# Altium schematic symbol library Discrete_Connector.SchLib: 62 symbols
Pins are listed as number, name and electrical type; pins without a type are passive.

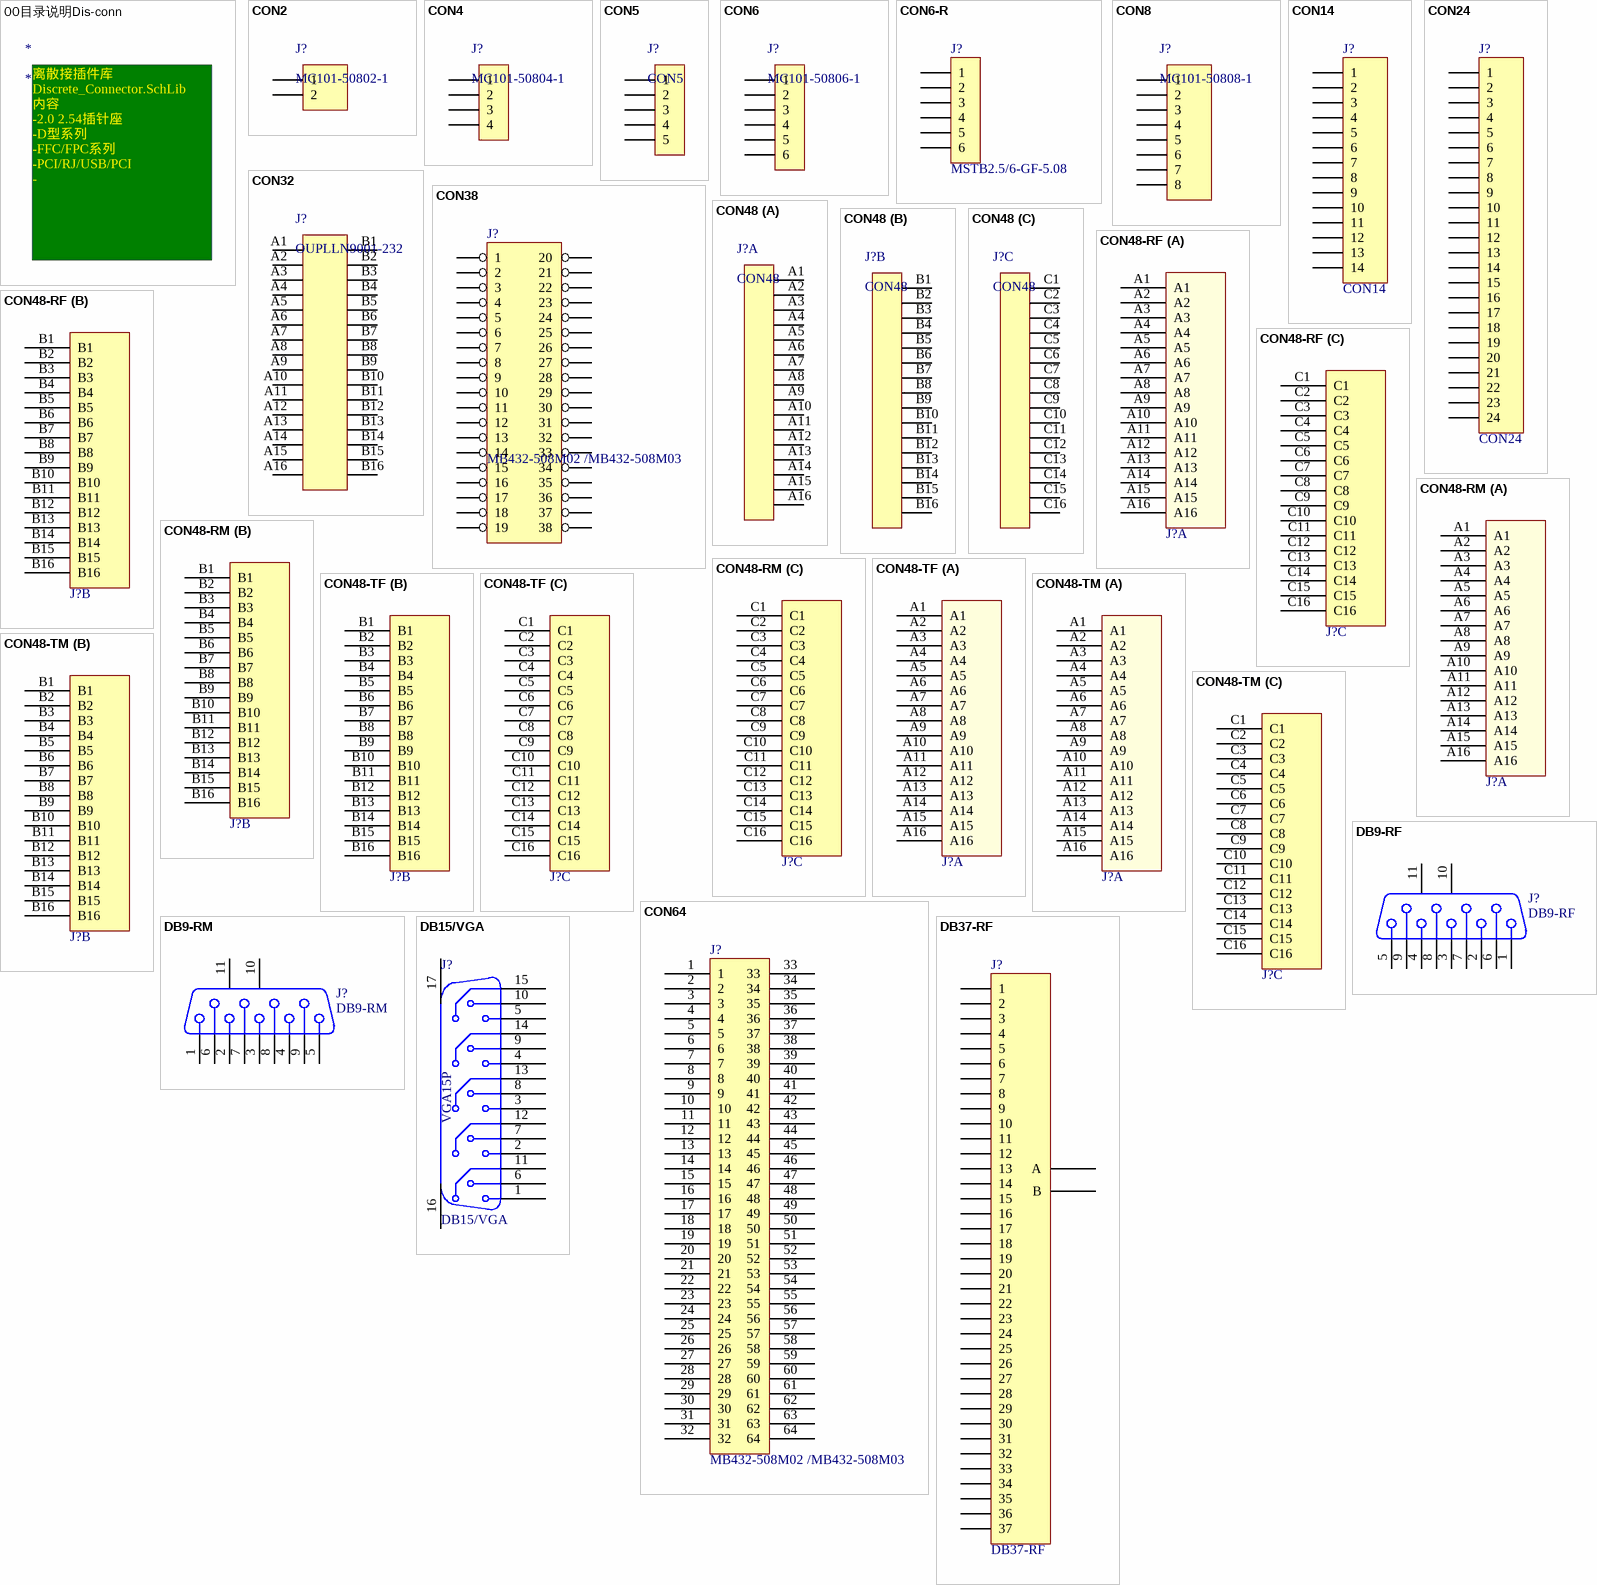
[diagram p0: symbols 00目录说明Dis-conn to DB37-RF]

## 00目录说明Dis-conn
designator *
text: 离散接插件库Discrete_Connector.SchLib / 内容 / -2.0 2.54插针座 / -D型系列 / -FFC/FPC系列 / -PCI/RJ/USB/PCI / - /

## CON2
designator J?, comment MC101-50802-1
5.08mmPHEONIX座; Manufacturer: DECA; Tips: 5.08mm2脚接线端子; 物料替代型号: 国产; Name: 5.08通用接线端子2pin; Ordering NO.: MC101-50802-1; Price: 0.31
footprint TB2/5.08 (菲尼克斯2pin座patch=5.08mm/200mil)
pins: 1, 2

## CON4
designator J?, comment MC101-50804-1
5.08mmPHEONIX座; Manufacturer: DECA; Tips: 5.08mm4脚接线端子; 物料替代型号: 国产; Name: 5.08通用接线端子4pin; Ordering NO.: MC101-50804-1; Price: 0.51
footprint TB4/5.08 (菲尼克斯4pin座patch=5.08mm/200mil)
pins: 1, 2, 3, 4

## CON5
designator J?
5.08mmPHEONIX座; Manufacturer: Phoenix; Tips: TUV认证; Name: Phoenix 5Pin接线端子; Ordering NO.: 座：MSTB2.5/5-GF-5.08（焊接在PCB上）
footprint TB5/5.08 (菲尼克斯5pin座patch=5.08mm/200mil)
pins: 1, 2, 3, 4, 5

## CON6
designator J?, comment MC101-50806-1
5.08mmPHEONIX座; Manufacturer: DECA; Tips: 5.08mm6脚接线端子; 物料替代型号: 国产; Name: 5.08通用接线端子6pin; Ordering NO.: MC101-50806-1; Price: 0.71
footprint TB6/5.08 (菲尼克斯6pin座patch=5.08mm/200mil)
pins: 1, 2, 3, 4, 5, 6

## CON6-R
designator J?, comment MSTB2.5/6-GF-5.08
6pin,单排,5.08间距,90度插针座; Name: 6pin,单排,5.08间距,90度插针座; Ordering NO.: MSTB2.5/6-GF-5.08
footprint PMR6/5.08-R
pins: 1, 2, 3, 4, 5, 6

## CON8
designator J?, comment MC101-50808-1
5.08mmPHEONIX座; Manufacturer: DECA; Tips: 5.08mm8脚接线端子; 物料替代型号: 国产; Name: 5.08通用接线端子8pin; Ordering NO.: MC101-50808-1; Price: 0.9`
footprint TB8/5.08 (菲尼克斯8pin座patch=5.08mm/200mil)
pins: 1, 2, 3, 4, 5, 6, 7, 8

## CON14
designator J?
14pin,单排,2.54mm间距; Manufacturer: 南士; Name: 14pin,单排,2.54mm间距连接器; Ordering NO.: 14pin,单排,2.54mm间距
footprint SIP14/2.54 (14 Leads,Pitch=2.54mm,焊盘: 外径1.6mm,孔径1mm)
pins: 1, 2, 3, 4, 5, 6, 7, 8, 9, 10, 11, 12, 13, 14

## CON24
designator J?
24pin,三排,2.54mm间距; Manufacturer: 南士; Name: 24pin,三排,2.54mm间距连接器; Ordering NO.: 24pin,三排,2.54mm间距
footprint HD3*8/2.54-T
pins: 1, 2, 3, 4, 5, 6, 7, 8, 9, 10, 11, 12, 13, 14, 15, 16, 17, 18, 19, 20, 21, 22, 23, 24

## CON32
designator J?, comment OUPLLN9001-232
欧式DIN32双排16x2; Name: 欧式连接器; Price: 2.01; Ordering NO.: OUPLLN9001-232
footprint PMR2*16/2.54-RF (欧式9001-232双排16x2弯孔)
footprint PMR2*16/2.54-RM (欧式9001-232双排16x2弯针)
pins: A1, A2, A3, A4, A5, A6, A7, A8, A9, A10, A11, A12, A13, A14, A15, A16, B1, B2, B3, B4, B5, B6, B7, B8, B9, B10, B11, B12, B13, B14, B15, B16

## CON38
designator J?, comment MB432-508M02 /MB432-508M03
双排38pin,需要MB432-508M02和MB432-508M03各2个、5个组合使用; Manufacturer: 进联; Name: 双层2连固定式连接器(38Pin); Price: 0.8; Ordering NO.: MB432-508M02 /MB432-508M03
footprint DIP38/5.08
pins: 1, 2, 3, 4, 5, 6, 7, 8, 9, 10, 11, 12, 13, 14, 15, 16, 17, 18, 19, 20, 21, 22, 23, 24, 25, 26, 27, 28, 29, 30, 31, 32, 33, 34, 35, 36, 37, 38

## CON48
designator J?
欧式DIN48三排16x3; Ordering NO.: OUPLLN9001-348; Name: 欧式连接器; Price: 2.11
footprint PMR3*16/2.54-RM
footprint PMR3*16/2.54-RF
footprint PMR3*16/2.54-RF-Mirror (Footprint not found)
part A pins: A1, A2, A3, A4, A5, A6, A7, A8, A9, A10, A11, A12, A13, A14, A15, A16
part B pins: B1, B2, B3, B4, B5, B6, B7, B8, B9, B10, B11, B12, B13, B14, B15, B16
part C pins: C1, C2, C3, C4, C5, C6, C7, C8, C9, C10, C11, C12, C13, C14, C15, C16

## CON48-RF
designator J?, comment HARTING 0928-248-6801  (value not drawn)
90度HARTING连接器2.54mm, 3x16Pin, 母头; Name: HARTING连接器; Manufacturer: HARTING; Ordering NO.: 0928-248-6801
footprint PMR3*16/2.54-RF
part A pins: A1, A2, A3, A4, A5, A6, A7, A8, A9, A10, A11, A12, A13, A14, A15, A16
part B pins: B1, B2, B3, B4, B5, B6, B7, B8, B9, B10, B11, B12, B13, B14, B15, B16
part C pins: C1, C2, C3, C4, C5, C6, C7, C8, C9, C10, C11, C12, C13, C14, C15, C16

## CON48-RM
designator J?, comment HARTING 0923-148-6921  (value not drawn)
90度HARTING连接器2.54mm, 3x16Pin, 公头; Name: HARTING连接器; Manufacturer: HARTING; Ordering NO.: 0923-148-6921
footprint PMR3*16/2.54-RM
part A pins: A1, A2, A3, A4, A5, A6, A7, A8, A9, A10, A11, A12, A13, A14, A15, A16
part B pins: B1, B2, B3, B4, B5, B6, B7, B8, B9, B10, B11, B12, B13, B14, B15, B16
part C pins: C1, C2, C3, C4, C5, C6, C7, C8, C9, C10, C11, C12, C13, C14, C15, C16

## CON48-TF
designator J?, comment HARTING 0923-248-6850  (value not drawn)
180度HARTING连接器2.54mm, 3x16Pin, 短针压接,母头(Har-bus 2C female connector Press-in 4.5, 48-pole); Name: HARTING连接器; Manufacturer: HARTING; Ordering NO.: 0923-248-6850
footprint PMR3*16/2.54-T
part A pins: A1, A2, A3, A4, A5, A6, A7, A8, A9, A10, A11, A12, A13, A14, A15, A16
part B pins: B1, B2, B3, B4, B5, B6, B7, B8, B9, B10, B11, B12, B13, B14, B15, B16
part C pins: C1, C2, C3, C4, C5, C6, C7, C8, C9, C10, C11, C12, C13, C14, C15, C16

## CON48-TM
designator J?, comment HARTING 0928-148-6985  (value not drawn)
180度HARTING连接器2.54mm, 3x16Pin, 长针压接,公头(Type 2R male connector press-in 13,0, 48pol.); Name: HARTING连接器; Manufacturer: HARTING; Ordering NO.: 0928-148-6985
footprint PMR3*16/2.54-T
part A pins: A1, A2, A3, A4, A5, A6, A7, A8, A9, A10, A11, A12, A13, A14, A15, A16
part B pins: B1, B2, B3, B4, B5, B6, B7, B8, B9, B10, B11, B12, B13, B14, B15, B16
part C pins: C1, C2, C3, C4, C5, C6, C7, C8, C9, C10, C11, C12, C13, C14, C15, C16

## CON64
designator J?, comment MB432-508M02 /MB432-508M03
双排64pin,需要MB432-508M02和MB432-508M03各2个、10个组合使用; Manufacturer: 进联; Name: 双层2连固定式连接器(64Pin); Ordering NO.: MB432-508M02 /MB432-508M03
footprint DIP64/5.08mm
pins: 1, 2, 3, 4, 5, 6, 7, 8, 9, 10, 11, 12, 13, 14, 15, 16, 17, 18, 19, 20, 21, 22, 23, 24, 25, 26, 27, 28, 29, 30, 31, 32, 33, 34, 35, 36, 37, 38, 39, 40, 41, 42, 43, 44, 45, 46, 47, 48, 49, 50, 51, 52, 53, 54, 55, 56, 57, 58, 59, 60, 61, 62, 63, 64

## DB9-RF
designator J?
D-SUB 9pin,母头,90度; Manufacturer: HARTING; Name: DB-9母头; Ordering NO.: 09661536612; Tips: TUV认证
footprint DB9-RF (DB9 卧式间距1.385 mm,母头)
pins: 1, 2, 3, 4, 5, 6, 7, 8, 9, 10 MH2, 11 MH1

## DB9-RM
designator J?
D-SUB 9pin, 公头,90度; Manufacturer: HARTING; Name: DB-9公头; Ordering NO.: 09651636812; Tips: TUV认证
footprint DB9-RM (DB9 卧式间距1.385 mm,公头)
pins: 1, 2, 3, 4, 5, 6, 7, 8, 9, 10 MH1, 11 MH2

## DB15/VGA
designator J?
D-SUB 15pin,3排,90度,VGA接插件; Manufacturer: 南士; 物料替代型号: 同型; Tips: VGA 15孔卧式座; Name: DB-15,VGA接插件; Ordering NO.: 3排 DB15/VGA座,卧式; Price: 1.5
footprint DB15-R (patch=90mil,100mil,VGA插座)
pins: 1, 2, 3, 4, 5, 6, 7, 8, 9, 10, 11, 12, 13, 14, 15, 16, 17
text: VGA15P

## DB37-RF
designator J?
D-SUB 37pin,母头,90度; Manufacturer: HARTING; Name: DB-37（90度母头）; Ordering NO.: 09654636812; Tips: TUV认证
footprint DB37-RF (37PIN,直插, 弯)
pins: 1, 2, 3, 4, 5, 6, 7, 8, 9, 10, 11, 12, 13, 14, 15, 16, 17, 18, 19, 20, 21, 22, 23, 24, 25, 26, 27, 28, 29, 30, 31, 32, 33, 34, 35, 36, 37, A, B

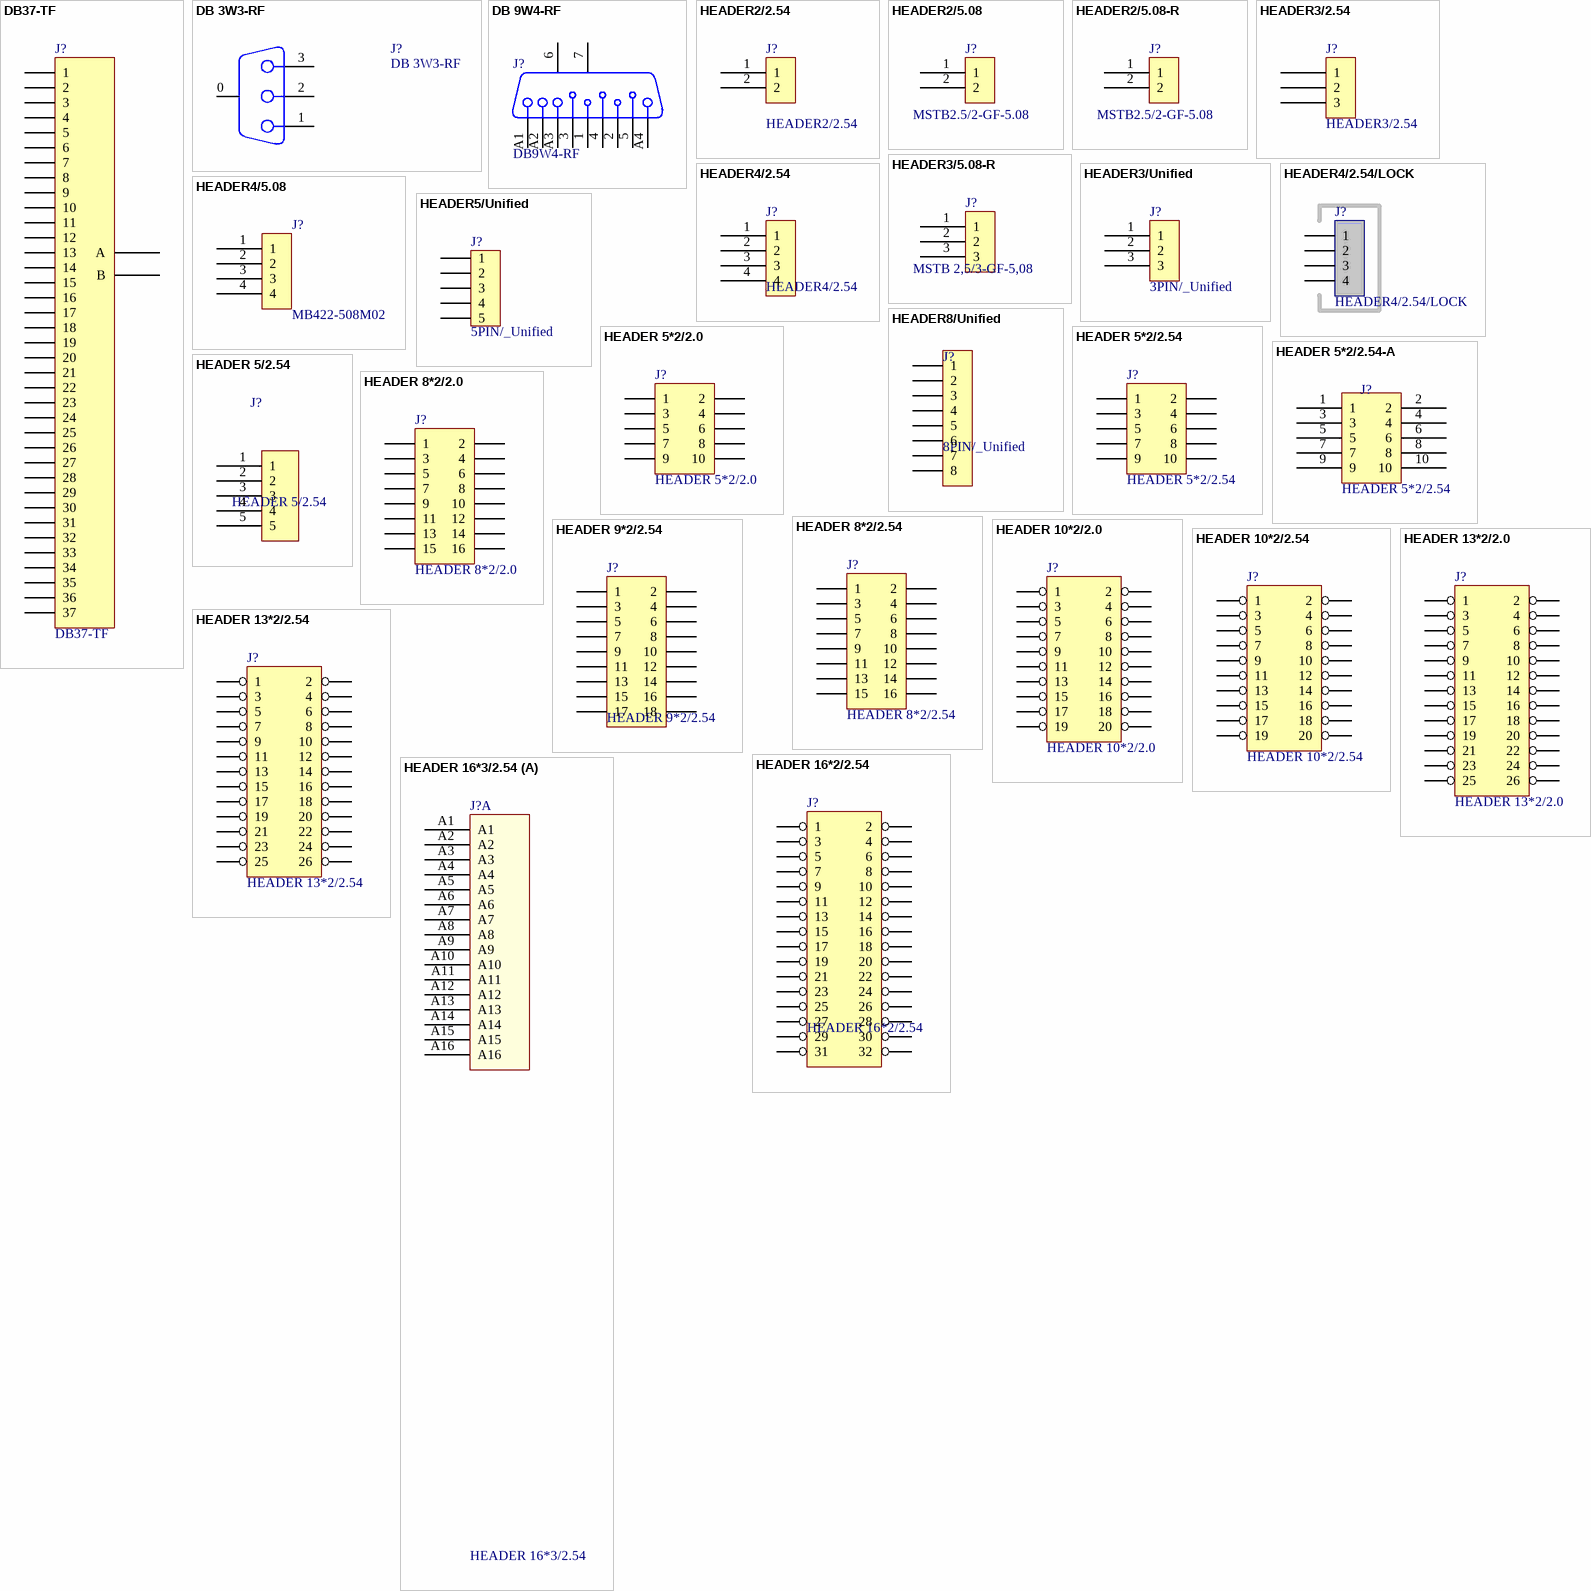
[diagram p1: symbols DB37-TF to HEADER 16*3/2.54]

## DB37-TF
designator J?
D-SUB 37pin,母头,180度; Manufacturer: HARTING; Name: DB-37（180度母头）; Ordering NO.: 09664116503; Tips: TUV认证
footprint DB37-TF (37PIN,直插, 直)
pins: 1, 2, 3, 4, 5, 6, 7, 8, 9, 10, 11, 12, 13, 14, 15, 16, 17, 18, 19, 20, 21, 22, 23, 24, 25, 26, 27, 28, 29, 30, 31, 32, 33, 34, 35, 36, 37, A, B

## DB 3W3-RF
designator J?
D-SUB 3W3,母头,90度; Manufacturer: 优联康; Ordering NO.: UL0.14W8.3W32; Name: DB-3W3
footprint DB3-RF (D-SUB 3W3 弯脚,母座，pitch 6.86mm,)
pins: 0, 1, 2, 3

## DB 9W4-RF
designator J?, comment DB9W4-RF
D-SUB 9W4,母头,90度; Manufacturer: HARTING; Name: DB-9W4; Ordering NO.: TB09693009106
footprint DB9-RF-A (Footprint not found)
pins: 1, 2, 3, 4, 5, 6 MH2, 7 MH1, A1, A2, A3, A4

## HEADER2/2.54
designator J?
2pin,单排,2.54mm间距; Manufacturer: 南士; Name: 2pin,单排,2.54mm间距插针; Price: 0.01; Ordering NO.: 2pin,单排,2.54mm间距
footprint SIP2/2.54 (单排2.54插针, 焊盘: 外径1.5mm,孔径1mm)
pins: 1, 2

## HEADER2/5.08
designator J?, comment MSTB2.5/2-GF-5.08
2pin,单排,5.08mm间距; Manufacturer: Failschild; Name: 端子座; Ordering NO.: MKDS 3/2-5.08
footprint SIP2/5.08
pins: 1, 2

## HEADER2/5.08-R
designator J?, comment MSTB2.5/2-GF-5.08
2pin,单排,5.08mm间距,90度; Manufacturer: 南士; Name: 2pin,单排,5.08mm间距,90度插座; Ordering NO.: MSTB2.5/2-GF-5.08
footprint PMR2/5.08-R
pins: 1, 2

## HEADER3/2.54
designator J?
3pin,单排,2.54mm间距; Manufacturer: 南士; Name: 3pin,单排,2.54mm间距插针; Ordering NO.: 3pin,单排,2.54mm间距
footprint SIP3/2.54 (单排2.54插针, 焊盘: 外径1.5mm,孔径1mm)
footprint 通用3pin,单排,2.54mm间距 (Footprint not found)
pins: 1, 2, 3

## HEADER3/5.08-R
designator J?, comment MSTB 2,5/3-GF-5,08
3pin,单排,5.08mm间距,90度; Manufacturer: Phoenix; Name: 3pin,单排,5.08mm间距,90度插座; Ordering NO.: MSTB 2,5/3-GF-5,08
footprint PMR3/5.08-R
pins: 1, 2, 3

## HEADER3/Unified
designator J?, comment 3PIN/_Unified
3pin,单排,2.54mm间距; Manufacturer: 南士; Ordering NO.: 3pin,单排,2.54mm间距 白座直针; Name: 3pin,单排,2.54mm间距
footprint SIP3/2.0 (单排2.0插针, 焊盘: 外径1.2mm,孔径0.7mm)
footprint SIP3/2.54/LOCK (带锁单排2.54插针, 焊盘: 外径1.5mm,孔径1mm)
pins: 1, 2, 3

## HEADER4/2.54
designator J?
4pin, 单排,2.0mm间距; Manufacturer: 南士; Name: 直插单排插针; Ordering NO.: 单排4pin直针间距2.54mm
footprint SIP4/2.54 (不带锁单排2.54插针, 焊盘: 外径1.5mm,孔径1mm)
pins: 1, 2, 3, 4

## HEADER4/2.54/LOCK
designator J?
4pin,单排,2.54mm间距,白座; Manufacturer: 南士; Name: 4针2.54白座; Ordering NO.: 单排4pin 2.54mm间距 白座直针; Tips: n/a; 物料替代型号: n/a; Price: 0.2
footprint SIP4/2.54/LOCK (带锁单排2.54插针, 焊盘: 外径1.5mm,孔径1mm)
pins: 1, 2, 3, 4

## HEADER4/5.08
designator J?, comment MB422-508M02
4Pin的电源端子,需要2个MB422-508M02组合成1个; Manufacturer: 进联; Name: 端子座; Tips: 给端子板使用; Ordering NO.: MB422-508M02
footprint DIP4/5.08mm (端子板电源端子)
pins: 1, 2, 3, 4

## HEADER5/Unified
designator J?, comment 5PIN/_Unified
5pin,单排,2.54mm间距; Manufacturer: 南士; Name: 5pin,单排,2.54mm间距插针; Ordering NO.: 5pin,单排,2.54mm间距 白座直针
footprint SIP5/2.54/LOCK (带锁单排2.54插针, 焊盘: 外径1.5mm,孔径1mm)
pins: 1, 2, 3, 4, 5

## HEADER8/Unified
designator J?, comment 8PIN/_Unified
8pin,单排,2.54mm间距; Manufacturer: 南士; Name: 8pin,单排,2.54mm间距插针; Ordering NO.: 8pin,单排,2.54mm间距
footprint SIP8/2.54 (Footprint not found)
pins: 1, 2, 3, 4, 5, 6, 7, 8

## HEADER 5*2/2.0
designator J?
10pin, 双排,2.0mm间距; Manufacturer: 南士; Tips: 10直针2.0; Name: 10pin, 双排,2.0mm间距插针; Ordering NO.: 双排10pin直针,间距2.0mm; 物料替代型号: n/a; Price: 0.10
footprint DIP10/2.0 (间距2.0插针,焊盘:外径1.4mm.孔径0.7mm)
pins: 1, 2, 3, 4, 5, 6, 7, 8, 9, 10

## HEADER 5*2/2.54
designator J?
简易牛角座, 10pin,双排, 2.54mm间距; Manufacturer: 南士; Ordering NO.: 302S-10P; Name: 简易牛角座
footprint IDC2*5/2.54 (2.54间距插针, 焊盘:外径1.57mm.孔径0.9mm)
pins: 1, 2, 3, 4, 5, 6, 7, 8, 9, 10

## HEADER 5*2/2.54-A
designator J?, comment HEADER 5*2/2.54
10pin,双排, 2.54mm间距; Manufacturer: 南士; Name: 10pin,双排, 2.54mm间距插针; Ordering NO.: 10pin,双排, 2.54mm间距
footprint DIP10/2.54 (Footprint not found)
pins: 1, 2, 3, 4, 5, 6, 7, 8, 9, 10

## HEADER 5/2.54
designator J?
5pin,单排, 2.54mm间距; Manufacturer: 南士; Name: 5pin,单排, 2.54mm间距插针; Ordering NO.: 5pin,单排, 2.54mm间距
footprint SIP5/2.54 (Footprint not found)
pins: 1, 2, 3, 4, 5

## HEADER 8*2/2.0
designator J?
16pin,双排,2.0mm间距; Manufacturer: 南士; 物料替代型号: 国产通用; Name: 16pin,双排,2.0mm间距 插针; Ordering NO.: 针16pin 2.0间距; Tips: n/a; Price: 0.24
footprint DIP16/2.0 (Footprint not found)
pins: 1, 2, 3, 4, 5, 6, 7, 8, 9, 10, 11, 12, 13, 14, 15, 16

## HEADER 8*2/2.54
designator J?
16pin,双排,2.54mm间距; Manufacturer: 南士; 物料替代型号: 国产通用; Tips: 镀金双排针; Name: 16pin,双排,2.54mm间距插针; Ordering NO.: 镀金双排针16pin 2.54间距; Price: 0.24
footprint DIP16/2.54 (Footprint not found)
pins: 1, 2, 3, 4, 5, 6, 7, 8, 9, 10, 11, 12, 13, 14, 15, 16

## HEADER 9*2/2.54
designator J?
18pin,双排,2.54mm间距; Manufacturer: 南士; 物料替代型号: 国产通用; Tips: 镀金双排针; Name: 18pin,双排,2.54mm间距插针; Ordering NO.: 镀金双排针18pin 2.54间距; Price: 0.24
footprint DIP18/2.54 (Footprint not found)
pins: 1, 2, 3, 4, 5, 6, 7, 8, 9, 10, 11, 12, 13, 14, 15, 16, 17, 18

## HEADER 10*2/2.0
designator J?
20pin, 双排,2.0mm间距; Manufacturer: 南士; Name: 20pin, 双排,2.0mm间距插针; Price: 0.4; Ordering NO.: 20pin, 双排,2.0mm间距
footprint DIP20/2.0 (Footprint not found)
pins: 1, 2, 3, 4, 5, 6, 7, 8, 9, 10, 11, 12, 13, 14, 15, 16, 17, 18, 19, 20

## HEADER 10*2/2.54
designator J?
20pin, 双排,2.54mm间距; Manufacturer: 南士; Name: 20pin, 双排,2.54mm间距插针; Price: 0.4; Ordering NO.: 20pin, 双排,2.54mm间距
footprint DIP20/2.54 (Footprint not found)
pins: 1, 2, 3, 4, 5, 6, 7, 8, 9, 10, 11, 12, 13, 14, 15, 16, 17, 18, 19, 20

## HEADER 13*2/2.0
designator J?
26pin, 双排,2.0mm间距; Manufacturer: 南士; Name: 26pin, 双排,2.0mm间距插针; Ordering NO.: 26pin, 双排,2.0mm间距
footprint DIP26/2.0 (间距2.0插针,焊盘:外径1.4mm.孔径0.7mm)
pins: 1, 2, 3, 4, 5, 6, 7, 8, 9, 10, 11, 12, 13, 14, 15, 16, 17, 18, 19, 20, 21, 22, 23, 24, 25, 26

## HEADER 13*2/2.54
designator J?
26pin, 双排,2.54mm间距; Manufacturer: 南士; Name: 26pin, 双排,2.54mm间距插针; Ordering NO.: 26pin, 双排,2.54mm间距
footprint DIP26/2.54 (2.54间距插针, 焊盘:外径1.57mm.孔径0.9mm)
pins: 1, 2, 3, 4, 5, 6, 7, 8, 9, 10, 11, 12, 13, 14, 15, 16, 17, 18, 19, 20, 21, 22, 23, 24, 25, 26

## HEADER 16*2/2.54
designator J?
32pin, 双排,2.54mm间距; Manufacturer: 南士; Name: 32pin, 双排,2.54mm间距插针; Ordering NO.: 32pin, 双排,2.54mm间距
footprint DIP32/2.54 (Footprint not found)
pins: 1, 2, 3, 4, 5, 6, 7, 8, 9, 10, 11, 12, 13, 14, 15, 16, 17, 18, 19, 20, 21, 22, 23, 24, 25, 26, 27, 28, 29, 30, 31, 32

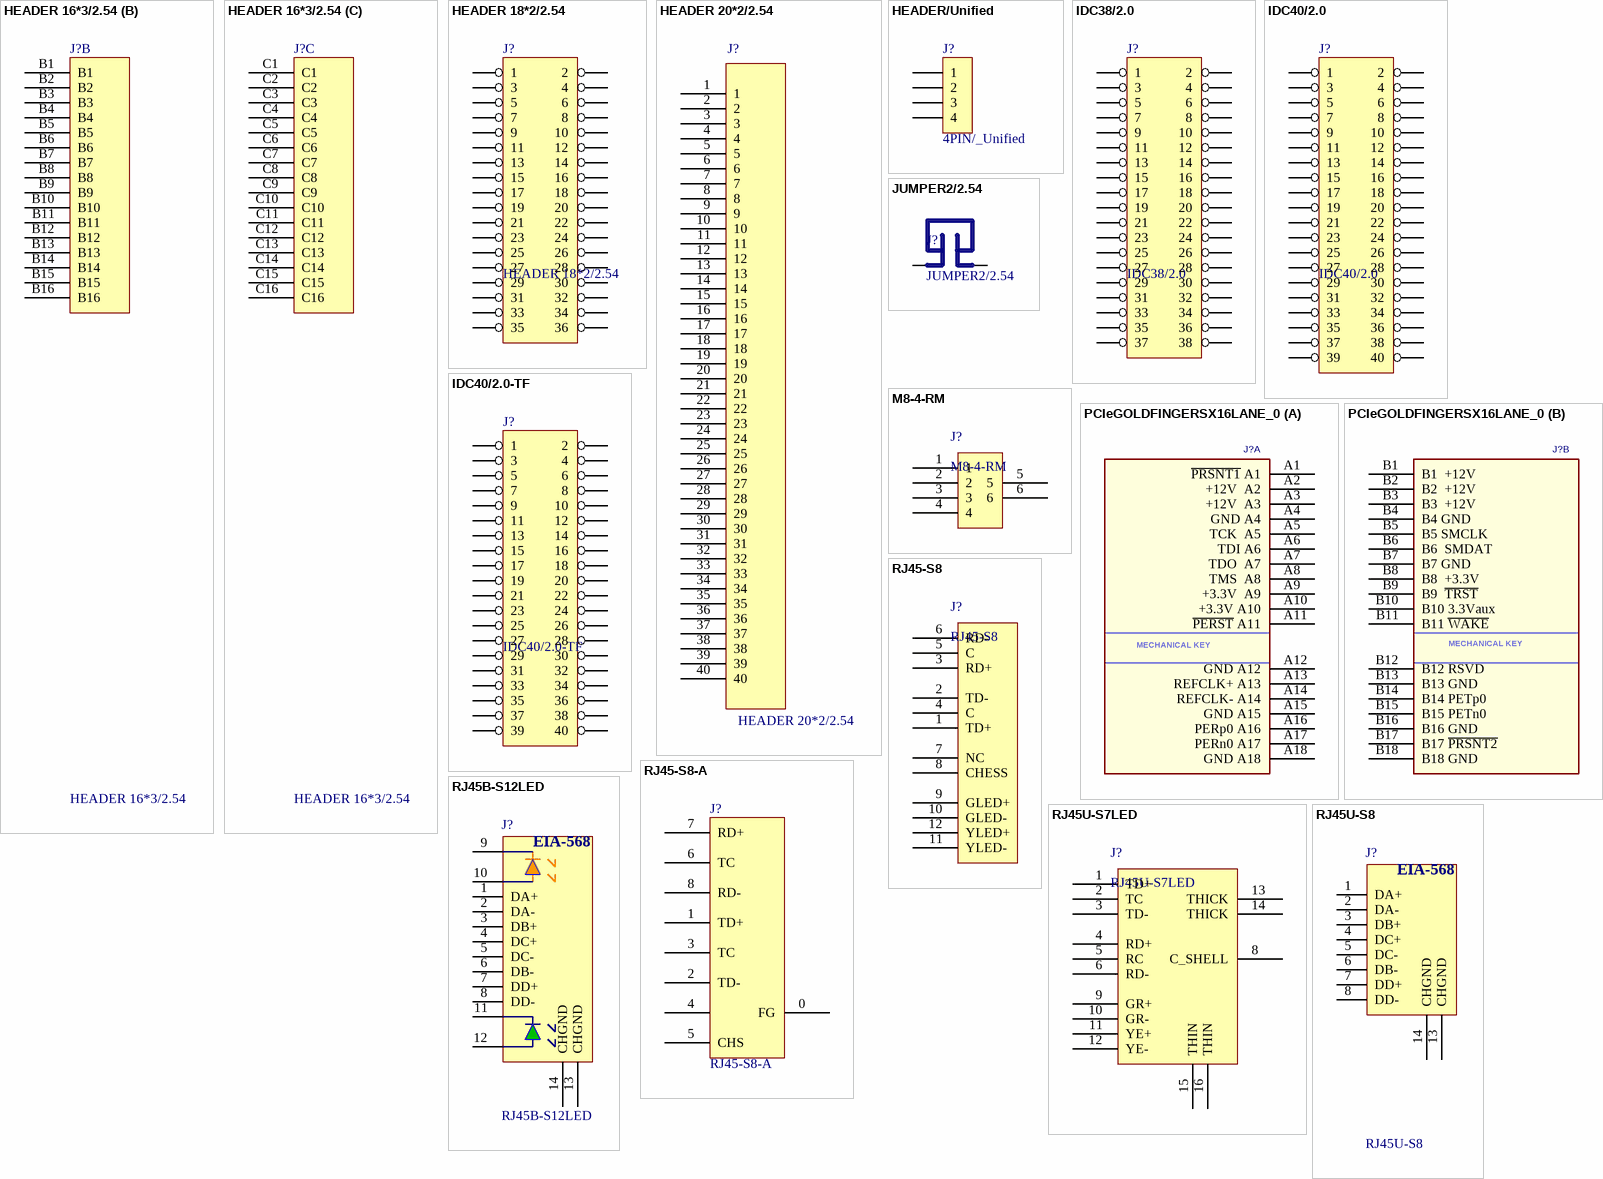
[diagram p2: symbols HEADER 16*3/2.54 to RJ45U-S8]

## HEADER 16*3/2.54
designator J?
48pin,3排,2.54mm间距; Manufacturer: 南士; Name: 48pin,3排,2.54mm间距插针; Ordering NO.: 48pin,3排,2.54mm间距
footprint PMR3*16/2.54-T (Footprint not found)
part A pins: A1, A2, A3, A4, A5, A6, A7, A8, A9, A10, A11, A12, A13, A14, A15, A16
part B pins: B1, B2, B3, B4, B5, B6, B7, B8, B9, B10, B11, B12, B13, B14, B15, B16
part C pins: C1, C2, C3, C4, C5, C6, C7, C8, C9, C10, C11, C12, C13, C14, C15, C16

## HEADER 18*2/2.54
designator J?
36pin, 双排,2.54mm间距; Manufacturer: 南士; Name: 36pin, 双排,2.54mm间距插针; Ordering NO.: 36pin, 双排,2.54mm间距插针
footprint DIP36/2.54 (Footprint not found)
pins: 1, 2, 3, 4, 5, 6, 7, 8, 9, 10, 11, 12, 13, 14, 15, 16, 17, 18, 19, 20, 21, 22, 23, 24, 25, 26, 27, 28, 29, 30, 31, 32, 33, 34, 35, 36

## HEADER 20*2/2.54
designator J?
40pin, 双排,2.54mm间距; Manufacturer: 南士; Name: 40pin, 双排,2.54mm间距插针; Ordering NO.: 40pin, 双排,2.54mm间距
footprint DIP40/2.54
pins: 1, 2, 3, 4, 5, 6, 7, 8, 9, 10, 11, 12, 13, 14, 15, 16, 17, 18, 19, 20, 21, 22, 23, 24, 25, 26, 27, 28, 29, 30, 31, 32, 33, 34, 35, 36, 37, 38, 39, 40

## HEADER/Unified
designator J?, comment 4PIN/_Unified
4pin,单排,2.54mm间距; Manufacturer: 南士; Name: 4pin,单排,2.54mm间距插针; Ordering NO.: 4pin,单排,2.54mm间距
footprint SIP4/2.0 (单排2.0插针, 焊盘: 外径1.2mm,孔径0.7mm)
footprint SIP4/2.54 (不带锁单排2.54插针, 焊盘: 外径1.5mm,孔径1mm)
footprint SIP4/2.54/LOCK (带锁单排2.54插针, 焊盘: 外径1.5mm,孔径1mm)
footprint IDC2*2/2.54 (2.54间距插针, 焊盘:外径1.57mm.孔径0.9mm)
pins: 1, 2, 3, 4

## IDC38/2.0
designator J?
38pin,双排,2.0mm间距; Manufacturer: 南士; Name: IDC连接器; Price: 0.8; Ordering NO.: 38pin,双排,2.0mm间距
footprint IDC38/2.0 (间距2.0插针,焊盘:外径1.4mm.孔径0.7mm)
pins: 1, 2, 3, 4, 5, 6, 7, 8, 9, 10, 11, 12, 13, 14, 15, 16, 17, 18, 19, 20, 21, 22, 23, 24, 25, 26, 27, 28, 29, 30, 31, 32, 33, 34, 35, 36, 37, 38

## IDC40/2.0
designator J?
40pin,双排,2.0mm间距; Manufacturer: 南士; Tips: 2.0间距; Name: IDC连接器; 物料替代型号: n/a; Ordering NO.: 40pin,双排,2.0mm间距; Price: 0.8
footprint DIP40/2.0 (间距2.0插针,焊盘:外径1.4mm.孔径0.7mm)
pins: 1, 2, 3, 4, 5, 6, 7, 8, 9, 10, 11, 12, 13, 14, 15, 16, 17, 18, 19, 20, 21, 22, 23, 24, 25, 26, 27, 28, 29, 30, 31, 32, 33, 34, 35, 36, 37, 38, 39, 40

## IDC40/2.0-TF
designator J?
40pin,双排,2.0mm间距,180度,母头; Manufacturer: 南士; Tips: 2.0间距; Name: IDC连接器; 物料替代型号: n/a; Ordering NO.: 40pin,双排,2.0mm间距,180度,母头; Price: 0.8
footprint DIP40/2.0 (间距2.0插针,焊盘:外径1.4mm.孔径0.7mm)
pins: 1, 2, 3, 4, 5, 6, 7, 8, 9, 10, 11, 12, 13, 14, 15, 16, 17, 18, 19, 20, 21, 22, 23, 24, 25, 26, 27, 28, 29, 30, 31, 32, 33, 34, 35, 36, 37, 38, 39, 40

## JUMPER2/2.54
designator J?
跳线器2pin,2.54mm间距; Manufacturer: 南士; Tips: 镀金2针; 物料替代型号: 国产通用; Name: 2针跳线器; Ordering NO.: 镀金针2pin 2.54间距; Price: 0.02
footprint SIP2/2.54 (单排2.54插针, 焊盘: 外径1.5mm,孔径1mm)
pins: 1, 2
2 alternate drawings of the same symbol

## M8-4-RM
designator J?
M8针式插头连接器,4芯,公头,90度; Manufacturer: 菲尼克斯; Ordering NO.: SACC-DSI-M8MS-4CON-L90 SH; Name: M8针式插头连接器
footprint M8-4-RM (M8针式插头连接器，4芯，公头，弯脚)
pins: 1, 2, 3, 4, 5, 6

## PCIeGOLDFINGERSX16LANE_0
designator J?  (value not drawn)  (no BOM)
PCIe金手指; Price: 1.01; Name: PCIe金手指; Ordering NO.: PCIeGOLDFINGERSX16LANE_0
footprint PCIE36 (PCIe1X金手指插头)
part A pins: A1 ~{PRSNT1} A1, A2 +12V  A2, A3 +12V  A3, A4 GND A4, A5 TCK  A5, A6 TDI A6, A7 TDO  A7, A8 TMS  A8, A9 +3.3V  A9, A10 +3.3V A10, A11 ~{PERST} A11, A12 GND A12, A13 REFCLK+ A13, A14 REFCLK- A14, A15 GND A15, A16 PERp0 A16, A17 PERn0 A17, A18 GND A18
part B pins: B1 B1  +12V, B2 B2  +12V, B3 B3  +12V, B4 B4 GND, B5 B5 SMCLK, B6 B6  SMDAT, B7 B7 GND, B8 B8  +3.3V, B9 B9  ~{TRST}, B10 B10 3.3Vaux, B11 B11 ~{WAKE}, B12 B12 RSVD, B13 B13 GND, B14 B14 PETp0, B15 B15 PETn0, B16 B16 GND, B17 B17 ~{PRSNT2}, B18 B18 GND
part A text: MECHANICAL KEY
part B text: MECHANICAL KEY

## RJ45-S8
designator J?
带磁体RJ45壳体; Name: RJ45座; Ordering NO.: HR9111105A; Price: 3.5
footprint RJ45-8T-Y-L (带磁芯LED的RJ45座)
pins: 1 TD+, 2 TD-, 3 RD+, 4 C, 5 C, 6 RD-, 7 NC, 8 CHESS, 9 GLED+, 10 GLED-, 11 YLED-, 12 YLED+

## RJ45-S8-A
designator J?
Name: RJ45座; Ordering NO.: HR901103A
footprint RJ45-8T
pins: 0 FG, 1 TD+, 2 TD-, 3 TC, 4, 5 CHS, 6 TC, 7 RD+, 8 RD-

## RJ45B-S12LED
designator J?
RJ45底联12针带灯; Manufacturer: AMP; 物料替代型号: 国产; Tips: 带灯座底联; Name: RJ45带灯座; Ordering NO.: RJ45B-S12LED; Price: 1.99
footprint RJ45-8T-L (Footprint not found)
pins: 1 DA+, 2 DA-, 3 DB+, 4 DC+, 5 DC-, 6 DB-, 7 DD+, 8 DD-, 9, 10, 11, 12, 13 CHGND, 14 CHGND
text: EIA-568

## RJ45U-S7LED
designator J?
汉仁防雷带磁体RJ45座上联; Manufacturer: HanRun; Tips: 防雷商用温度; Ordering NO.: HR871159C; Name: RJ45带灯座; Price: 15
footprint RJ45-7T-Z-L (HR871159防雷带磁体LEDRJ45座)
pins: 1 TD+, 2 TC, 3 TD-, 4 RD+, 5 RC, 6 RD-, 8 C_SHELL, 9 GR+, 10 GR-, 11 YE+, 12 YE-, 13 THICK, 14 THICK, 15 THIN, 16 THIN

## RJ45U-S8
designator J?
RJ45顶联8针不带灯; Name: RJ45座; Price: 0.88
footprint RJ45U-S8 (上联型，不带灯)
pins: 1 DA+, 2 DA-, 3 DB+, 4 DC+, 5 DC-, 6 DB-, 7 DD+, 8 DD-, 13 CHGND, 14 CHGND
text: EIA-568